# Altium integrated library LIB_TEMP_S7CAS.IntLib: 1 symbol
Pins are listed as number, name and electrical type; pins without a type are passive.

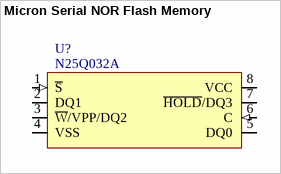
[diagram p0: symbol Micron Serial NOR Flash Memory]

## Micron Serial NOR Flash Memory
designator U?, comment N25Q032A
N25Q032A - 32Mb, 3V, Multiple I/O Serial Flash Memory - 8-SOIC (0.209", 5.30mm Width); GRAMS Lib Spec: 2.7; HelpURL: https://media-www.micron.com/-/media/client/global/documents/products/data-sheet/nor-flash/serial-nor/n25q/n25q_32mb_3v_65nm.pdf?rev=27fc6016fc5249adb4bb8f221e72b395
pins: 1 ~{S} (in) "Chip select", 2 DQ1 (io) "Serial data", 3 ~{W}/VPP/DQ2 (io) "Write protect", 4 VSS "Ground", 5 DQ0 (io) "Serial data", 6 C (in) "Clock", 7 ~{HOLD}/DQ3 (io) "Hold", 8 VCC (power) "Device core power supply"